# EAGLE library part SSW-108-02-S-D (library A4988)
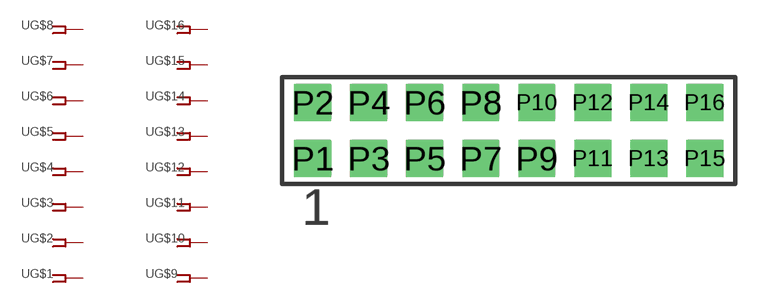
[diagram p8: symbol with the pads of SSW-108-02-S-D; footprint SSW-108-02-S-D]

Designator prefix -; gates G$1=FPIN G$2=FPIN G$3=FPIN G$4=FPIN G$5=FPIN G$6=FPIN G$7=FPIN G$8=FPIN G$9=FPIN G$10=FPIN G$11=FPIN G$12=FPIN G$13=FPIN G$14=FPIN G$15=FPIN G$16=FPIN

## SSW-108-02-S-D  [SSW-108-02-S-D]
P1  G$1:1  pas
P2  G$2:1  pas
P3  G$3:1  pas
P4  G$4:1  pas
P5  G$5:1  pas
P6  G$6:1  pas
P7  G$7:1  pas
P8  G$8:1  pas
P9  G$9:1  pas
P10  G$10:1  pas
P11  G$11:1  pas
P12  G$12:1  pas
P13  G$13:1  pas
P14  G$14:1  pas
P15  G$15:1  pas
P16  G$16:1  pas

## Footprint SSW-108-02-S-D (pad centres in mm)
drill 0.5 pad 1.676 square: P1 0,-2.54; P2 0,0; P3 2.54,-2.54; P4 2.54,0; P5 5.08,-2.54; P6 5.08,0; P7 7.62,-2.54; P8 7.62,0; P9 10.16,-2.54; P10 10.16,0; P11 12.7,-2.54; P12 12.7,0; P13 15.24,-2.54; P14 15.24,0; P15 17.78,-2.54; P16 17.78,0